# Altium schematic symbol library diode.SchLib: 15 symbols
Pins are listed as number, name and electrical type; pins without a type are passive.

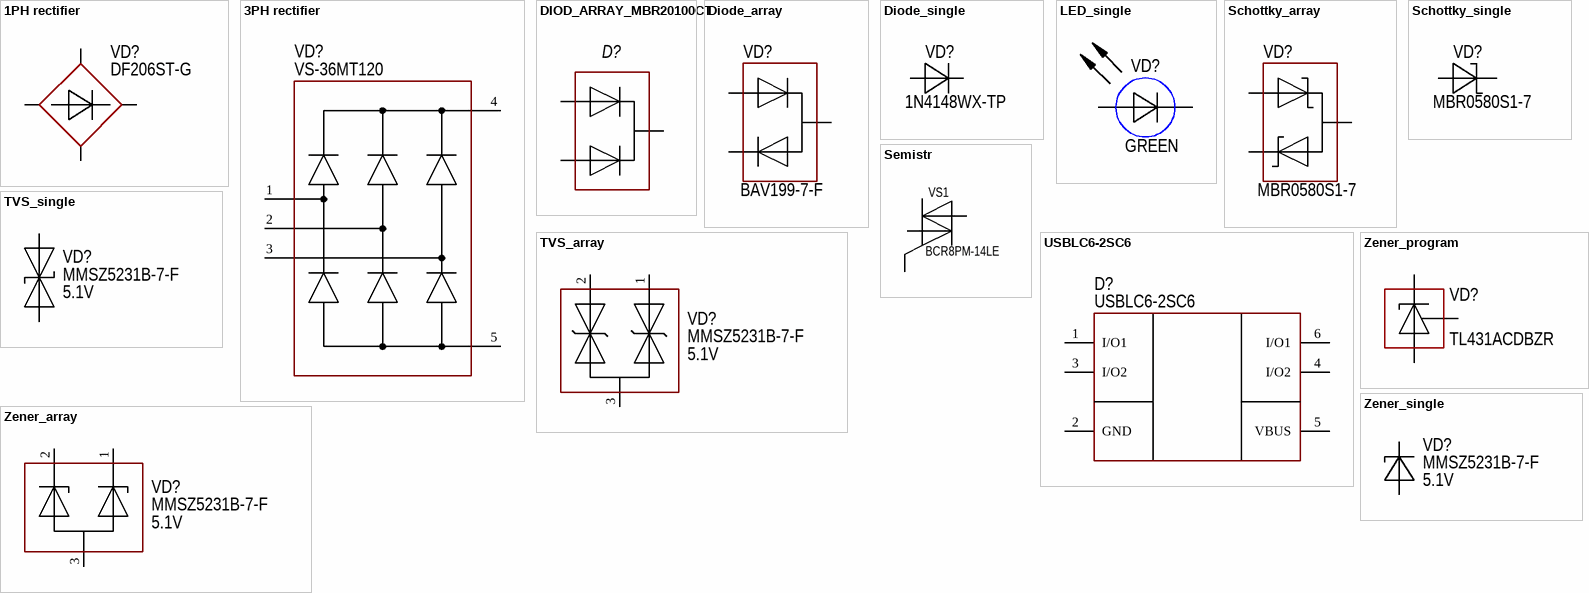
[diagram p0: symbols 1PH rectifier to Zener_single]

## 1PH rectifier
designator VD?  PartNumber: DF206ST-G
Manufacturer: Comchip Technology; ValueManufacturerPartNumber: Single phase rectifier, 600V, 2A, 1.1V, 4-SMD, -55...+150°C; TypeDiode: Single phase rectifier; Voltage: 600V; Current: 2A; VoltageDrop: 1.1V; Package: 4-SMD; HelpURL: https://www.digikey.com/product-detail/en/comchip-technology/DF206ST-G/641-1425-1-ND/2208797; Temperature: -55...+150°C
footprint DIODE: CD-MBL2
footprint DIODE: DF206S-G
footprint DIODE: GBU (SMD Diode Bridge)
footprint DIODE: KBU6M
pins: 1, 2, 3, 4

## 3PH rectifier
designator VD?  PartNumber: VS-36MT120
Manufacturer: Vishay Semiconductor; ValueManufacturerPartNumber: Three phase rectifier, 1200V, 35A, 1.19V, case D-63, -55...+150°C; TypeDiode: Three phase rectifier; Voltage: 1200V; Current: 35A; VoltageDrop: 1.19V; Package: case D-63; HelpURL: https://www.digikey.com/products/en?keywords=vs-36MT120; Temperature: -55...+150°C
footprint DIODE: VS-36MT120
pins: 1, 2, 3, 4, 5

## DIOD_ARRAY_MBR20100CT
designator 1, comment D?
pins: 1, 2, 3

## Diode_array
designator VD?  PartNumber: BAV199-7-F
Manufacturer: Diodes Incorporated; ValueManufacturerPartNumber: Diode array, 85V, 140mA, 1.1V, 3us, SOT-23, -65...+150°C; TypeDiode: Diode array; Voltage: 85V; Current: 140mA; VoltageDrop: 1.1V; RecoveryTime: 3us; Package: SOT-23; HelpURL: https://www.digikey.com/product-detail/en/diodes-incorporated/BAV199-7-F/BAV199-FDICT-ND/1033647; Temperature: -65...+150°C
footprint SC-70
footprint SOT23
pins: 1, 2, 3

## Diode_single
designator VD?  PartNumber: 1N4148WX-TP
Manufacturer: Micro Commercial; ValueManufacturerPartNumber: Single diode, 75V, 150mA, 1V, 4ns, SOD-323, -55...+150°C; TypeDiode: Single diode; Voltage: 75V; Current: 150mA; VoltageDrop: 1V; RecoveryTime: 4ns; Package: SOD-323; HelpURL: https://www.digikey.com/product-detail/en/micro-commercial-co/1N4148WX-TP/1N4148WXTPMSCT-ND/717312; Temperature: -55...+150°C
footprint DIODE: SMA
footprint DIODE: SMB
footprint DIODE: SMC
footprint DIODE: SOD80
footprint DIODE: SOD123
footprint DIODE: SOD123F
footprint DIODE: SOD123W
footprint DIODE: SOD323
footprint DIODE: SOD523
footprint TO220(D)
footprint TO220(DH)
footprint TO247(D) (3-Lead Plastic TO-247)
footprint DPAK (D)
pins: 1, 2

## LED_single
designator VD?  Color: GREEN
ValueManufacturerPartNumber: LED, Green, *, *, *, -55...+150°C; TypeDiode: LED; Manufacturer: *; Package: *; HelpURL: *; Temperature: -55...+150°C; Current: *; VoltageDrop: *; PartNumber: *; ColorParameter: Green
footprint LED: 0402B
footprint LED: 0402G
footprint LED: 0402O
footprint LED: 0402R
footprint LED: 0402Y
footprint LED: 0603B
footprint LED: 0603G
footprint LED: 0603R
footprint LED: 0603Y
footprint LED: 0805B
footprint LED: 0805G
footprint LED: 0805R
footprint LED: 0805Y
footprint LED: 1206B
footprint LED: 1206G
footprint LED: 1206R
footprint LED: 1206W
footprint LED: 1206Y
footprint LED: 5730
footprint LED: 6868
pins: 1 A, 2 C

## Schottky_array
designator VD?  PartNumber: MBR0580S1-7
Manufacturer: Diodes Incorporated; ValueManufacturerPartNumber: Schottky diode, 80V, 500mA, 1V, 15pF, SOD-123, -55...+150°C; TypeDiode: Schottky diode; Voltage: 80V; Current: 500mA; VoltageDrop: 1V; RecoveryTime: 15pF; Package: SOD-123; HelpURL: https://www.digikey.com/product-detail/en/diodes-incorporated/MBR0580S1-7/MBR0580S1-7DICT-ND/5080371; Temperature: -55...+150°C
footprint SC-70
footprint SOT23
pins: 1, 2, 3

## Schottky_single
designator VD?  PartNumber: MBR0580S1-7
Manufacturer: Diodes Incorporated; ValueManufacturerPartNumber: Schottky diode, 80V, 500mA, 1V, 15pF, SOD-123, -55...+150°C; TypeDiode: Schottky diode; Voltage: 80V; Current: 500mA; VoltageDrop: 1V; RecoveryTime: 15pF; Package: SOD-123; HelpURL: https://www.digikey.com/product-detail/en/diodes-incorporated/MBR0580S1-7/MBR0580S1-7DICT-ND/5080371; Temperature: -55...+150°C
footprint DIODE: SMA
footprint DIODE: SMB
footprint DIODE: SMC
footprint DIODE: SOD80
footprint DIODE: SOD123
footprint DIODE: SOD123F
footprint DIODE: SOD123W
footprint DIODE: SOD323
footprint DIODE: SOD523
footprint TO220(D)
footprint TO220(DH)
footprint TO247(D) (3-Lead Plastic TO-247)
footprint DPAK (D)
pins: 1, 2

## Semistr
designator VS1, comment BCR8PM-14LE
footprint SOT23
pins: 1, 1

## TVS_array
designator VD?  Voltage: 5.1V  PartNumber: MMSZ5231B-7-F
Manufacturer: Diodes Incorporated; ValueManufacturerPartNumber: Zener diode, 5.1V, 500mW, 0.9V, 17Ohm, SOD-123, -55...+150°C; TypeDiode: Zener diode; Current: 500mW; VoltageDrop: 0.9V; RecoveryTime: 17Ohm; Package: SOD-123; HelpURL: https://www.digikey.com/product-detail/en/diodes-incorporated/MMSZ5231B-7-F/MMSZ5231B-FDICT-ND/755506; Temperature: -55...+150°C
footprint SC-70
footprint SOT23
pins: 1, 2, 3

## TVS_single
designator VD?  Voltage: 5.1V  PartNumber: MMSZ5231B-7-F
Manufacturer: Diodes Incorporated; ValueManufacturerPartNumber: Zener diode, 5.1V, 500mW, 0.9V, 17Ohm, SOD-123, -55...+150°C; TypeDiode: Zener diode; Current: 500mW; VoltageDrop: 0.9V; RecoveryTime: 17Ohm; Package: SOD-123; HelpURL: https://www.digikey.com/product-detail/en/diodes-incorporated/MMSZ5231B-7-F/MMSZ5231B-FDICT-ND/755506; Temperature: -55...+150°C
footprint DIODE: SMA
footprint DIODE: SMB
footprint DIODE: SMC
footprint DIODE: SOD80
footprint DIODE: SOD123
footprint DIODE: SOD123F
footprint DIODE: SOD123W
footprint DIODE: SOD323
footprint DIODE: SOD523
pins: 1 A, 2 C

## USBLC6-2SC6
designator D?  PartNumber: USBLC6-2SC6
Manufacturer: STMicroelectronics; TypeDiode: USB protection; Current: 5A peak; VoltageDrop: 17V; RecoveryTime: Power line; Package: SOT-23-6; HelpURL: https://www.digikey.com/product-detail/en/stmicroelectronics/USBLC6-2SC6/497-5235-1-ND/1121688; ValueManufacturerPartNumber: =TypeDiode+', '+Voltage+', '+Current+', '+VoltageDrop+', '+RecoveryTime+', '+Package+', '+Temperature; Temperature: -40...+125°C
footprint SOT23-6 (pitch 0.95 mm)
pins: 1 I/O1, 2 GND, 3 I/O2, 4 I/O2, 5 VBUS, 6 I/O1

## Zener_array
designator VD?  Voltage: 5.1V  PartNumber: MMSZ5231B-7-F
Manufacturer: Diodes Incorporated; ValueManufacturerPartNumber: Zener diode, 5.1V, 500mW, 0.9V, 17Ohm, SOD-123, -55...+150°C; TypeDiode: Zener diode; Current: 500mW; VoltageDrop: 0.9V; RecoveryTime: 17Ohm; Package: SOD-123; HelpURL: https://www.digikey.com/product-detail/en/diodes-incorporated/MMSZ5231B-7-F/MMSZ5231B-FDICT-ND/755506; Temperature: -55...+150°C
footprint SC-70
footprint SOT23
pins: 1, 2, 3

## Zener_program
designator VD?  PartNumber: TL431ACDBZR
Manufacturer: Texas Instruments; ValueManufacturerPartNumber: Program zener diode, 36V, 100mA, 2.495V, ±1%, SOT-23, 0...+70°C; TypeDiode: Program zener diode; Current: 100mA; VoltageDrop: 2.495V; Tolerance: ±1%; Voltage: 36V; Package: SOT-23; HelpURL: https://www.digikey.com/product-detail/en/texas-instruments/TL431ACDBZR/296-17328-1-ND/686884; Temperature: 0...+70°C
footprint SOT23
pins: 1, 2, 3

## Zener_single
designator VD?  Voltage: 5.1V  PartNumber: MMSZ5231B-7-F
Manufacturer: Diodes Incorporated; ValueManufacturerPartNumber: Zener diode, 5.1V, 500mW, 0.9V, 17Ohm, SOD-123, -55...+150°C; TypeDiode: Zener diode; Current: 500mW; VoltageDrop: 0.9V; RecoveryTime: 17Ohm; Package: SOD-123; HelpURL: https://www.digikey.com/product-detail/en/diodes-incorporated/MMSZ5231B-7-F/MMSZ5231B-FDICT-ND/755506; Temperature: -55...+150°C
footprint DIODE: SMA
footprint DIODE: SMB
footprint DIODE: SMC
footprint DIODE: SOD80
footprint DIODE: SOD123
footprint DIODE: SOD123F
footprint DIODE: SOD123W
footprint DIODE: SOD323
footprint DIODE: SOD523
pins: 1 A, 2 C